# EAGLE library part TL16C550D (library 68komputer)
TL16C550D– Asynchronous Communications Element With Autoflow Control Datasheet <http://www.ti.com/lit/ds/symlink/tl16c550d.pdf>
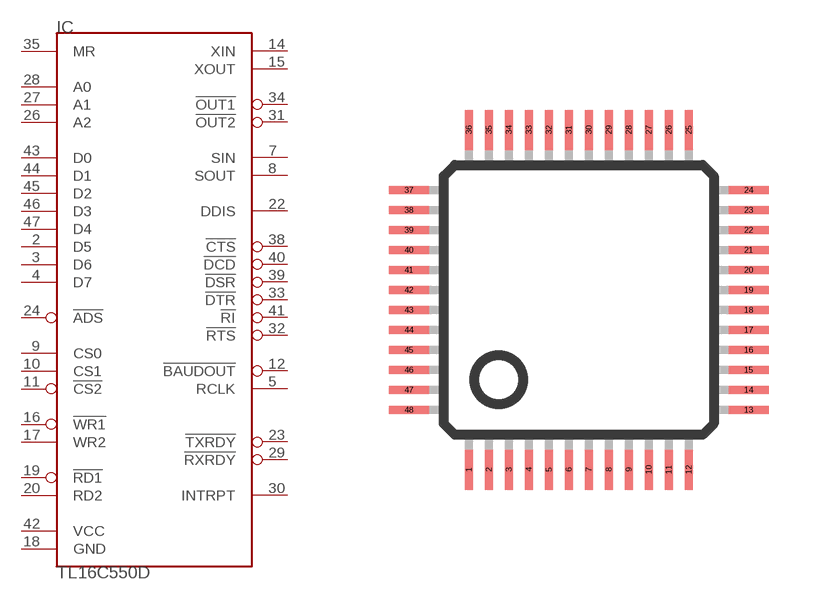
[diagram p30: symbol with the pads of LQFP48; footprint LQFP48]

Designator prefix IC

## TL16C550DLQFP-48 (VALUE: TL16C550D)  [LQFP48]
2  D5
3  D6
4  D7
5  RCLK  in
7  SIN  in
8  SOUT  out
9  CS0  in
10  CS1  in
11  !CS2  in
12  !BAUDOUT  out
14  XIN  pas
15  XOUT  pas
16  !WR1  in
17  WR2  in
18  GND  pwr
19  !RD1  in
20  RD2  in
22  DDIS  out
23  !TXRDY  out
24  !ADS  in
26  A2  in
27  A1  in
28  A0  in
29  !RXRDY  out
30  INTRPT  out
31  !OUT2  out
32  !RTS  out
33  !DTR  out
34  !OUT1  out
35  MR  in
38  !CTS  in
39  !DSR  in
40  !DCD  in
41  !RI  in
42  VCC  pwr
43  D0
44  D1
45  D2
46  D3
47  D4

## Footprint LQFP48 (pad centres in mm)
48-pin plastic LQFP (FPT-48P-M26) www.fma.fujitsu.com/pdf/e713717.pdf
smd 0.2 x 1: 1 -2.75,-4.25; 2 -2.25,-4.25; 3 -1.75,-4.25; 4 -1.25,-4.25; 5 -0.75,-4.25; 6 -0.25,-4.25; 7 0.25,-4.25; 8 0.75,-4.25; 9 1.25,-4.25; 10 1.75,-4.25; 11 2.25,-4.25; 12 2.75,-4.25; 25 2.75,4.25; 26 2.25,4.25; 27 1.75,4.25; 28 1.25,4.25; 29 0.75,4.25; 30 0.25,4.25; 31 -0.25,4.25; 32 -0.75,4.25; 33 -1.25,4.25; 34 -1.75,4.25; 35 -2.25,4.25; 36 -2.75,4.25
smd 1 x 0.2: 13 4.25,-2.75; 14 4.25,-2.25; 15 4.25,-1.75; 16 4.25,-1.25; 17 4.25,-0.75; 18 4.25,-0.25; 19 4.25,0.25; 20 4.25,0.75; 21 4.25,1.25; 22 4.25,1.75; 23 4.25,2.25; 24 4.25,2.75; 37 -4.25,2.75; 38 -4.25,2.25; 39 -4.25,1.75; 40 -4.25,1.25; 41 -4.25,0.75; 42 -4.25,0.25; 43 -4.25,-0.25; 44 -4.25,-0.75; 45 -4.25,-1.25; 46 -4.25,-1.75; 47 -4.25,-2.25; 48 -4.25,-2.75